# EAGLE library part IC_74HC4017 (library untitled)
Decade counter
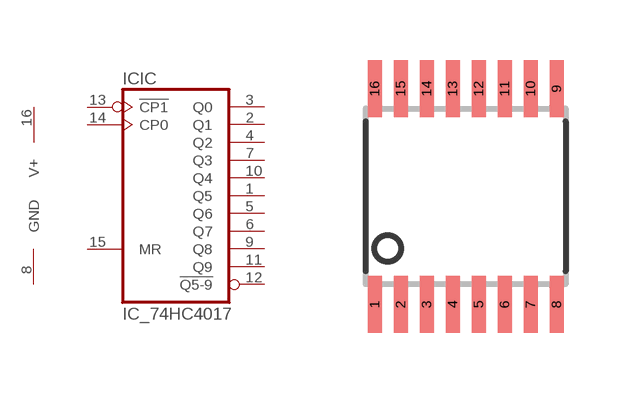
[diagram p30: symbol with the pads of TSSOP-16; footprint TSSOP-16]

Designator prefix IC; gates IC=74HC4017 SUPPLY=SUPPLY

## IC_74HC4017-TSSOP-16  [TSSOP-16]
1  IC:Q5  out
2  IC:Q1  out
3  IC:Q0  out
4  IC:Q2  out
5  IC:Q6  out
6  IC:Q7  out
7  IC:Q3  out
8  SUPPLY:GND  sup
9  IC:Q8  out
10  IC:Q4  out
11  IC:Q9  out
12  IC:!Q5-9  out
13  IC:!CP1  in
14  IC:CP0  in
15  IC:MR  in
16  SUPPLY:V+  sup

## Footprint TSSOP-16 (pad centres in mm)
smd 0.35 x 1.43: 1 -2.275,-2.7; 2 -1.625,-2.7; 3 -0.975,-2.7; 4 -0.325,-2.7; 5 0.325,-2.7; 6 0.975,-2.7; 7 1.625,-2.7; 8 2.275,-2.7; 9 2.275,2.7; 10 1.625,2.7; 11 0.975,2.7; 12 0.325,2.7; 13 -0.325,2.7; 14 -0.975,2.7; 15 -1.625,2.7; 16 -2.275,2.7